# Altium schematic symbol library A4988SETTR-T.SchLib: 1 symbol
Pins are listed as number, name and electrical type; pins without a type are passive.

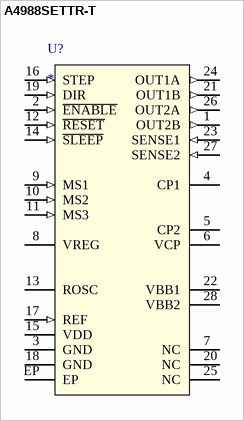
[diagram p0: symbol A4988SETTR-T]

## A4988SETTR-T
designator U?
DMOS Microstepping Driver with Translator  and Overcurrent Protection
pins: 1 OUT2B (out), 2 ~{ENABLE} (in), 3 GND (power), 4 CP1, 5 CP2, 6 VCP, 7 NC, 8 VREG, 9 MS1 (in), 10 MS2 (in), 11 MS3 (in), 12 ~{RESET} (in), 13 ROSC, 14 ~{SLEEP} (in), 15 VDD (power), 16 STEP (in), 17 REF (in), 18 GND (power), 19 DIR (in), 20 NC, 21 OUT1B (out), 22 VBB1 (power), 23 SENSE1 (in), 24 OUT1A (out), 25 NC, 26 OUT2A (out), 27 SENSE2 (in), 28 VBB2 (power), EP (power)